# Altium schematic symbol library AMM-3742-T-WP-R.SchLib: 1 symbol
Pins are listed as number, name and electrical type; pins without a type are passive.

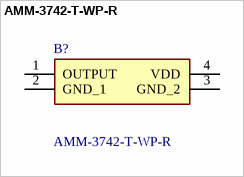
[diagram p0: symbol AMM-3742-T-WP-R]

## AMM-3742-T-WP-R
designator B?
Microphones MICROPHONE -42 DB 2 VDC 200 UA 300 OHM,20 Hz ~ 20 kHz Analog Microphone MEMS (Silicon) 1.5 V ~ 3.6 V Omnidirectional (-42dB +/-1dB) Solder Pads; Manufacturer_Name: PUI Audio; Geometry.Height: 1.3mm; Mouser Part Number: 665-AMM-3742-T-WP-R; Mouser Price/Stock: https://www.mouser.co.uk/ProductDetail/PUI-Audio/AMM-3742-T-WP-R?qs=iLbezkQI%252Bsjj6DcgQwGq9A%3D%3D; Manufacturer_Part_Number: AMM-3742-T-WP-R; Datasheet Link: https://www.puiaudio.com/media/SpecSheet/AMM-3742-T-WP-R.pdf
footprint AMM3742TWPR
pins: 1 OUTPUT, 2 GND_1, 3 GND_2, 4 VDD